# EAGLE library part RJ45-NO_SHIELD (library Connectors)
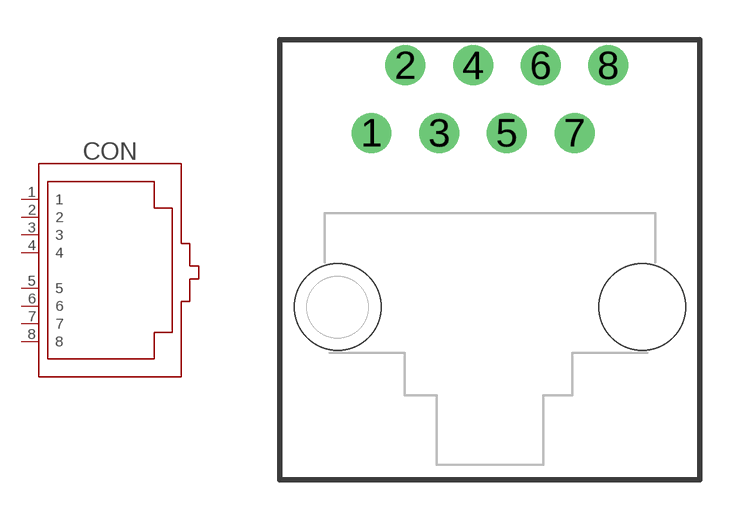
[diagram p20: symbol with the pads of 5556416-1; footprint 5556416-1]

Designator prefix CON

## RJ45-NO_SHIELD-5556416-1 (LCSC#: C86492; MANF: TE Connectivity; MANF#: 5556416-1)  [5556416-1]
1  1
2  2
3  3
4  4
5  5
6  6
7  7  nc
8  8  sup

## Footprint 5556416-1 (pad centres in mm)
Datasheet <https://www.te.com/commerce/DocumentDelivery/DDEController?Action=showdoc&DocId=Specification+Or+Standard%7F114-2048%7FR%7Fpdf%7FEnglish%7FENG_SS_114-2048_R_114-2048.pdf%7F5556416-1>
drill 0.9 pad 1.5: 1 -4.44,4.76; 2 -3.17,7.3; 3 -1.9,4.76; 4 -0.63,7.3; 5 0.64,4.76; 6 1.91,7.3; 7 3.18,4.76; 8 4.45,7.3
hole 3.25 at -5.715,-1.778
hole 3.25 at 5.715,-1.778